# Altium schematic symbol library Ublox_RF_Receivers.SchLib: 2 symbols
Pins are listed as number, name and electrical type; pins without a type are passive.

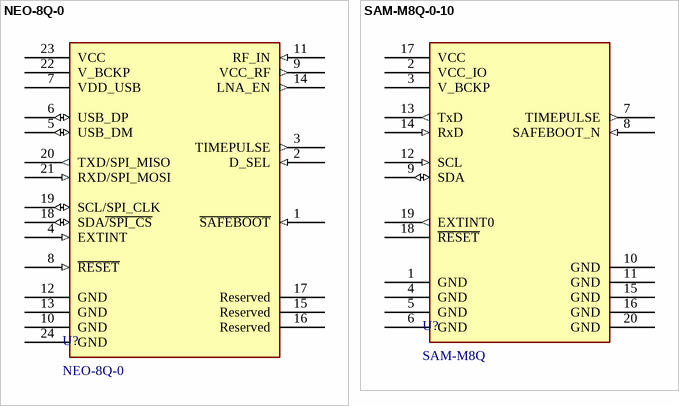
[diagram p0: symbols NEO-8Q-0 to SAM-M8Q-0-10]

## NEO-8Q-0
designator U?
Rf Receiver Gnss 1.575GHZ Mod; Manufacturer: u-blox; Categories: RF/IF and RFID; Sensitivity: -166dBm; Data Interface: I²C, SPI, UART, USB; Voltage - Supply: 1.65 V ~ 3.6 V; Supplier 1: Digi-Key; Manufacturer Part Number: NEO-8Q-0; Stock 1: 247; Pricing 1: 1=25 (USD); Series: NEO-8Q; Packaging: Tape & Reel (TR); Part Status: Active; Frequency: 1.575GHz; Data Rate (Max): -; Applications: General Purpose; Current - Receiving: -; Memory Size: -; Antenna Connector: -; Features: -; Operating Temperature: -40°C ~ 85°C; Package / Case: 24-SMD Module; Supplier Device Package: -; ComponentLink1URL: https://www.u-blox.com/sites/default/files/NEO-8Q_DataSheet_%28UBX-15031913%29.pdf?src-supplier=Digi-Key; ComponentLink1Description: https://www.u-blox.com/sites/default/files/NEO-8Q_DataSheet_%28UBX-15031913%29.pdf?src-supplier=Digi-Key; Supplier Part Number 1: 672-NEO-8Q-0CT-ND
pins: 1 ~{SAFEBOOT} (in), 2 D_SEL (in), 3 TIMEPULSE (out), 4 EXTINT (in), 5 USB_DM (io), 6 USB_DP (io), 7 VDD_USB (power), 8 ~{RESET} (in), 9 VCC_RF (out), 10 GND (power), 11 RF_IN (in), 12 GND (power), 13 GND (power), 14 LNA_EN (out), 15 Reserved (power), 16 Reserved (power), 17 Reserved (power), 18 SDA~{/SPI_CS} (io), 19 SCL/SPI_CLK (io), 20 TXD/SPI_MISO (out), 21 RXD/SPI_MOSI (in), 22 V_BCKP (power), 23 VCC (power), 24 GND (power)

## SAM-M8Q-0-10
designator U?, comment SAM-M8Q
Rf Rx Galileo 1.575GHZ/1.602GHZ; Manufacturer: u-blox; Manufacturer Part Number: SAM-M8Q-0-10; Categories: RF/IF and RFID; Frequency: 1.575GHz, 1.602GHz; Sensitivity: -165dBm; Data Rate (Max): 400kbps; Modulation or Protocol: Galileo, GLONASS, GPS; Data Interface: I²C, SPI, UART, USB; Voltage - Supply: 2.7 V ~ 3.6 V; Supplier 1: Digi-Key; Stock 1: 250; Pricing 1: 1=27, 10=21.77, 50=17.83, 100=14.26 (USD); Series: SAM-M8Q; Packaging: Tape & Reel (TR); Part Status: Active; Applications: GPS; Current - Receiving: -; Memory Size: -; Antenna Connector: -; Features: -; Operating Temperature: -40°C ~ 85°C; Package / Case: 20-SMD Module; ComponentLink1URL: https://www.u-blox.com/sites/default/files/SAM-M8Q_ProductSummary_%28UBX-15027452%29.pdf?src-supplier=Digi-Key; ComponentLink1Description: https://www.u-blox.com/sites/default/files/SAM-M8Q_ProductSummary_%28UBX-15027452%29.pdf?src-supplier=Digi-Key; ComponentLink2URL: https://www.u-blox.com/sites/default/files/SAM-M8Q_DataSheet_%28UBX-16012619%29.pdf?src-supplier=Digi-Key; ComponentLink2Description: https://www.u-blox.com/sites/default/files/SAM-M8Q_DataSheet_%28UBX-16012619%29.pdf?src-supplier=Digi-Key; Supplier Part Number 1: 672-1054-1-ND
pins: 1 GND (power), 2 VCC_IO (power), 3 V_BCKP (power), 4 GND (power), 5 GND (power), 6 GND (power), 7 TIMEPULSE (out), 8 SAFEBOOT_N (in), 9 SDA (io), 10 GND (power), 11 GND (power), 12 SCL (in), 13 TxD (out), 14 RxD (in), 15 GND (power), 16 GND (power), 17 VCC (power), 18 ~{RESET} (power), 19 EXTINT0 (out), 20 GND (power)